# EAGLE library part BCR421U (library infineon)
LED DRIVER
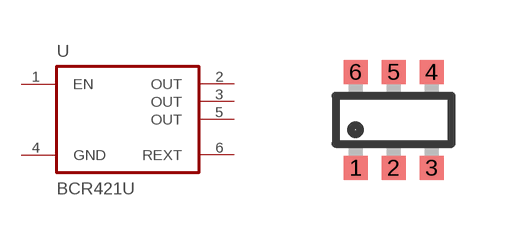
[diagram p0: symbol with the pads of SC74-6; footprint SC74-6]

Designator prefix U

## BCR421U  [SC74-6]
1  EN  in
2  OUT  oc
3  OUT  oc
4  GND  in
5  OUT  oc
6  REXT

## Footprint SC74-6 (pad centres in mm)
Small Outline Transistor - 6 leads
smd 0.6 x 0.6: 1 -0.95,-1.2; 2 0,-1.2; 3 0.95,-1.2; 4 0.95,1.2; 5 0,1.2; 6 -0.95,1.2